# Altium footprint library PcbLib1.PcbLib: 264 footprints (part 14 of 17)
Each footprint in its own frame and in the unit in brackets; x right, y up, seen from the top. Pads: shape width x height; smd on the part's side, far side on the other; paste and mask are expansions set on the pad; w line width, h text height; cw(c..) or ccw(c..) is an arc to the next point about the centre after c.
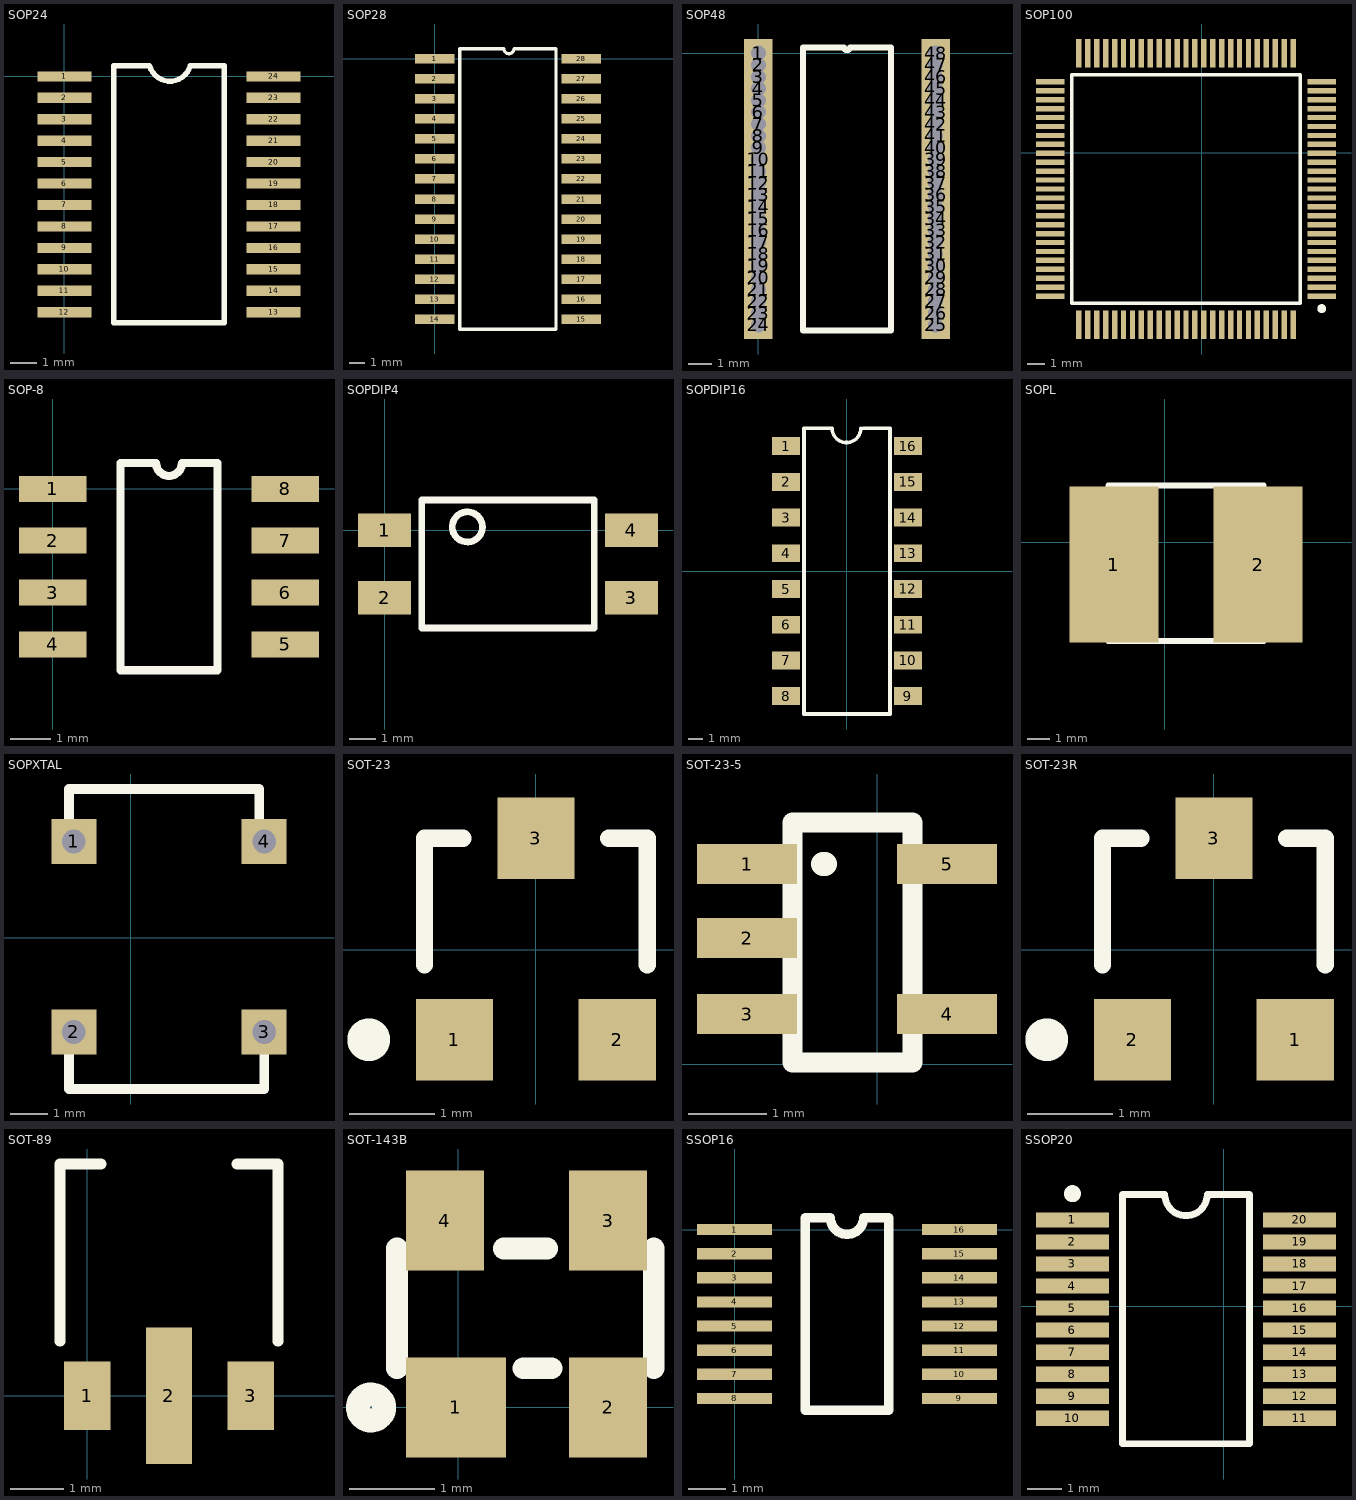
[diagram p13: the footprints below, top view; thin cyan lines are the x and y axes]

## SOP24 [mm] "0.8MM"
height 2
pads (24):
  rect 2x0.38 smd: 1(0,0) 2(0,-0.8) 3(0,-1.6) 4(0,-2.4) 5(0,-3.2) 6(0,-4) 7(0,-4.8) 8(0,-5.6) 9(0,-6.4) 10(0,-7.2) 11(0,-8) 12(0,-8.8) 13(7.8,-8.8) 14(7.8,-8) 15(7.8,-7.2) 16(7.8,-6.4) 17(7.8,-5.6) 18(7.8,-4.8) 19(7.8,-4) 20(7.8,-3.2) 21(7.8,-2.4) 22(7.8,-1.6) 23(7.8,-0.8) 24(7.8,0)
Top Overlay:
  lines w0.2: 3.1,0.4 1.835,0.4 1.835,-9.2 5.965,-9.2 5.965,0.4 4.7,0.4 ; 3.175,0.4 ccw(c3.935,0.607) 4.694,0.401

## SOP28 [mm]
pads (28):
  rect 2.5x0.6 smd: 1(0.013,0) 2(0.013,-1.27) 3(0.013,-2.54) 4(0.013,-3.81) 5(0.013,-5.08) 6(0.013,-6.35) 7(0.013,-7.62) 8(0.013,-8.89) 9(0.013,-10.16) 10(0.013,-11.43) 11(0.013,-12.7) 12(0.013,-13.97) 13(0.013,-15.24) 14(0.013,-16.51) 15(9.284,-16.51) 16(9.284,-15.24) 17(9.284,-13.97) 18(9.284,-12.7) 19(9.284,-11.43) 20(9.284,-10.16) 21(9.284,-8.89) 22(9.284,-7.62) 23(9.284,-6.35) 24(9.284,-5.08) 25(9.284,-3.81) 26(9.284,-2.54) 27(9.284,-1.27) 28(9.284,0)
Top Overlay:
  lines w0.2: 1.594,-17.145 7.689,-17.145 7.689,0.635 5.022,0.635 cw(c4.705,0.635) 4.387,0.635 1.594,0.635 1.594,-17.145

## SOP48 [mm] "SOP-48"
height 1.27
pads (48):
  rect 1.2x1.2 on Top hole 0.635: 1(0,0) 2(0,-0.5) 3(0,-1) 4(0,-1.5) 5(0,-2) 6(0,-2.5) 7(0,-3) 8(0,-3.5) 9(0,-4) 10(0,-4.5) 11(0,-5) 12(0,-5.5) 13(0,-6) 14(0,-6.5) 15(0,-7) 16(0,-7.5) 17(0,-8) 18(0,-8.5) 19(0,-9) 20(0,-9.5) 21(0,-10) 22(0,-10.5) 23(0,-11) 24(0,-11.5) 25(7.5,-11.5) 26(7.5,-11) 27(7.5,-10.5) 28(7.5,-10) 29(7.5,-9.5) 30(7.5,-9) 31(7.5,-8.5) 32(7.5,-8) 33(7.5,-7.5) 34(7.5,-7) 35(7.5,-6.5) 36(7.5,-6) 37(7.5,-5.5) 38(7.5,-5) 39(7.5,-4.5) 40(7.5,-4) 41(7.5,-3.5) 42(7.5,-3) 43(7.5,-2.5) 44(7.5,-2) 45(7.5,-1.5) 46(7.5,-1) 47(7.5,-0.5) 48(7.5,0)
Top Overlay:
  lines w0.254: 1.889,-11.75 1.889,0.25 3.625,0.25 ccw(c3.75,0.25) 3.875,0.25 5.611,0.25 5.611,-11.75 1.889,-11.75

## SOP100 [mm] "TQFP"
height 1
pads (100):
  rect 1.6x0.3 smd: 1(6.731,-8.04) 2(6.731,-7.54) 3(6.731,-7.04) 4(6.731,-6.54) 5(6.731,-6.04) 6(6.731,-5.54) 7(6.731,-5.04) 8(6.731,-4.54) 9(6.731,-4.04) 10(6.731,-3.54) 11(6.731,-3.04) 12(6.731,-2.54) 13(6.731,-2.04) 14(6.731,-1.54) 15(6.731,-1.04) 16(6.731,-0.54) 17(6.731,-0.04) 18(6.731,0.46) 19(6.731,0.96) 20(6.731,1.46) 21(6.731,1.96) 22(6.731,2.46) 23(6.731,2.96) 24(6.731,3.46) 25(6.731,3.96) 51(-8.469,3.96) 52(-8.469,3.46) 53(-8.469,2.96) 54(-8.469,2.46) 55(-8.469,1.96) 56(-8.469,1.46) 57(-8.469,0.96) 58(-8.469,0.46) 59(-8.469,-0.04) 60(-8.469,-0.54) 61(-8.469,-1.04) 62(-8.469,-1.54) 63(-8.469,-2.04) 64(-8.469,-2.54) 65(-8.469,-3.04) 66(-8.469,-3.54) 67(-8.469,-4.04) 68(-8.469,-4.54) 69(-8.469,-5.04) 70(-8.469,-5.54) 71(-8.469,-6.04) 72(-8.469,-6.54) 73(-8.469,-7.04) 74(-8.469,-7.54) 75(-8.469,-8.04)
  rect 0.3x1.6 smd: 26(5.131,5.56) 27(4.631,5.56) 28(4.131,5.56) 29(3.631,5.56) 30(3.131,5.56) 31(2.631,5.56) 32(2.131,5.56) 33(1.631,5.56) 34(1.131,5.56) 35(0.631,5.56) 36(0.131,5.56) 37(-0.369,5.56) 38(-0.869,5.56) 39(-1.369,5.56) 40(-1.869,5.56) 41(-2.369,5.56) 42(-2.869,5.56) 43(-3.369,5.56) 44(-3.869,5.56) 45(-4.369,5.56) 46(-4.869,5.56) 47(-5.369,5.56) 48(-5.869,5.56) 49(-6.369,5.56) 50(-6.869,5.56) 76(-6.869,-9.64) 77(-6.369,-9.64) 78(-5.869,-9.64) 79(-5.369,-9.64) 80(-4.869,-9.64) 81(-4.369,-9.64) 82(-3.869,-9.64) 83(-3.369,-9.64) 84(-2.869,-9.64) 85(-2.369,-9.64) 86(-1.869,-9.64) 87(-1.369,-9.64) 88(-0.869,-9.64) 89(-0.369,-9.64) 90(0.131,-9.64) 91(0.631,-9.64) 92(1.131,-9.64) 93(1.631,-9.64) 94(2.131,-9.64) 95(2.631,-9.64) 96(3.131,-9.64) 97(3.631,-9.64) 98(4.131,-9.64) 99(4.631,-9.64) 100(5.131,-9.64)
Top Overlay:
  circle w0.25: c6.731,-8.74 r0.125
  lines w0.2: -7.269,-8.44 -7.269,4.36 5.531,4.36 5.531,-8.44 -7.269,-8.44

## SOP-8 [mil] "SOP"
height 39.37
pads (8):
  rect 65x25 smd: 1(0,0) 2(0,-50) 3(0,-100) 4(0,-150) 5(224.41,-150) 6(224.41,-100) 7(224.41,-50) 8(224.41,0)
Top Overlay:
  lines w7.87: 65.37,-175 65.37,25 99.7,25 ccw(c112.2,25) 124.7,25 159.04,25 159.04,-175 65.37,-175

## SOPDIP4 [mm] "SOP-4,Row Spacing 7.62 mm; Pitch 2.54 mm"
height 5
pads (4):
  rect 2x1.27 smd: 1(0,0) 2(0,-2.54) 3(9.3,-2.54) 4(9.3,0)
Top Overlay:
  circle w0.254: c3.118,0.127 r0.568
  lines w0.254: 1.4,-3.683 7.9,-3.683 7.9,1.143 1.4,1.143 1.4,-3.683

## SOPDIP16 [mm] "SOP16;2.54mm;"
height 2
pads (16):
  rect 2x1.27 smd: 1(-4.32,8.896) 2(-4.32,6.356) 3(-4.32,3.816) 4(-4.32,1.276) 5(-4.32,-1.264) 6(-4.32,-3.804) 7(-4.32,-6.344) 8(-4.32,-8.884) 9(4.341,-8.884) 10(4.341,-6.344) 11(4.341,-3.804) 12(4.341,-1.264) 13(4.341,1.276) 14(4.341,3.816) 15(4.341,6.356) 16(4.341,8.896)
Top Overlay:
  lines w0.254: -3.05,-10.154 -3.05,10.166 -1.145,10.166 ; -3,-10.154 3.02,-10.154 ; -1.044,10.166 ccw(c-0.028,10.166) 0.988,10.166 ; 1.166,10.166 3.071,10.166 3.071,-10.154

## SOPL [mm] "SOP LX"
height 3
pads (2):
  rect 4x7 smd: 1(-2.286,-1.016) 2(4.191,-1.016)
Top Overlay:
  lines w0.254: -2.54,-4.445 -2.54,2.54 4.445,2.54 4.445,-4.445 -2.54,-4.445

## SOPXTAL [mm]
height 1
pads (4):
  rect 1.2x1.2 on Top hole 0.635: 1(-1.524,2.565) 2(-1.524,-2.515) 3(3.556,-2.515) 4(3.556,2.565)
Top Overlay:
  lines w0.254: -1.651,-2.515 -1.651,-4.039 3.556,-4.039 3.556,-2.515 ; -1.651,2.565 -1.651,3.962 3.429,3.962 3.429,2.565

## SOT-23 [mm] "SOT-23; 3 Leads; Body 3.0 x 2.5 mm, inc. leads (LxW max)"
height 1.2
pads (3):
  rect 0.9x0.95 smd: 1(-0.95,-1.048) 2(0.95,-1.048) 3(0,1.302)
Top Overlay:
  circle w0.25: c-1.95,-1.048 r0.125
  lines w0.2: -1.3,-0.173 -1.3,1.302 -0.85,1.302 ; 0.85,1.302 1.3,1.302 1.3,-0.173

## SOT-23-5 [mil]
pads (5):
  rect 50x20 smd: 1(-65,100) 2(-65,63) 3(-65,25) 4(35,25) 5(35,100)
Top Overlay:
  lines w10: -42.24,0.68 -42.24,120.68 17.76,120.68 17.76,0.68 -42.24,0.68
  lines w12: -27,100 -26,100

## SOT-23R [mm] "SOT-23; 3 Leads; Body 3.0 x 2.5 mm, inc. leads (LxW max)"
height 1.2
pads (3):
  rect 0.9x0.95 smd: 1(0.95,-1.048) 2(-0.95,-1.048) 3(0,1.302)
Top Overlay:
  circle w0.25: c-1.95,-1.048 r0.125
  lines w0.2: -1.3,-0.173 -1.3,1.302 -0.85,1.302 ; 0.85,1.302 1.3,1.302 1.3,-0.173

## SOT-89 [mil]
pads (3):
  rect 34x50 smd: 1(0,0) 3(120,0)
  rect 34x100 smd: 2(60,0)
Top Overlay:
  lines w8: -20,40 -20,170 10,170 ; 110,170 140,170 140,40
Top Solder:
  lines w80: 60,60 60,140 60,60

## SOT-143B [mil]
height 47.24
pads (4):
  rect 46x46 smd: 1(-1,0)
  rect 36x46 smd: 2(69,0) 3(69,86) 4(-6,86)
Top Overlay:
  circle w11: c-40,0 r6
  lines w10: -28.11,18 -28.11,73.12 ; 21,73.12 41,73.12 ; 30,18 43,18 ; 90,18 90,73.12

## SSOP16 [mm] "ADS7843,P2P:0.625mm,w:6mm"
height 1.2
pads (16):
  rect 2x0.3 smd: 1(0,0) 2(0,-0.643) 3(0,-1.286) 4(0,-1.929) 5(0,-2.572) 6(0,-3.215) 7(0,-3.858) 8(0,-4.501) 9(6,-4.501) 10(6,-3.858) 11(6,-3.215) 12(6,-2.572) 13(6,-1.929) 14(6,-1.286) 15(6,-0.643) 16(6,0)
Top Overlay:
  lines w0.254: 1.889,-4.822 1.889,0.322 2.553,0.322 ccw(c3,0.322) 3.447,0.322 4.111,0.322 4.111,-4.822 1.889,-4.822

## SSOP20 [mm]
height 1
pads (20):
  rect 2.15x0.45 smd: 1(-4.468,2.544) 2(-4.468,1.894) 3(-4.468,1.244) 4(-4.468,0.594) 5(-4.468,-0.056) 6(-4.468,-0.706) 7(-4.468,-1.356) 8(-4.468,-2.006) 9(-4.468,-2.656) 10(-4.468,-3.306) 11(2.232,-3.306) 12(2.232,-2.656) 13(2.232,-2.006) 14(2.232,-1.356) 15(2.232,-0.706) 16(2.232,-0.056) 17(2.232,0.594) 18(2.232,1.244) 19(2.232,1.894) 20(2.232,2.544)
Top Overlay:
  circle w0.25: c-4.468,3.319 r0.125
  lines w0.2: -2.993,-4.056 0.757,-4.056 0.757,3.294 -0.493,3.294 cw(c-1.118,3.294) -1.743,3.294 -2.993,3.294 -2.993,-4.056